# Altium schematic symbol library ESP32-S3-DEVKITC-1-N8R2.SchLib: 1 symbol
Pins are listed as number, name and electrical type; pins without a type are passive.

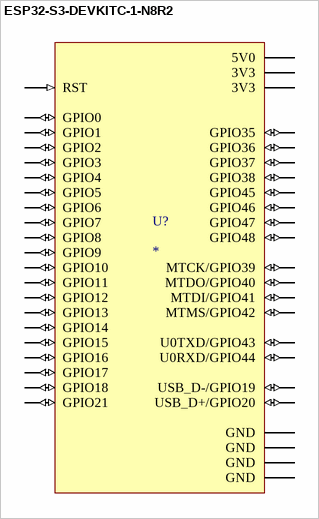
[diagram p0: symbol ESP32-S3-DEVKITC-1-N8R2]

## ESP32-S3-DEVKITC-1-N8R2
designator U?
WiFi Development Tools - 802.11 (Engineering Samples Only) ESP32-S3 General-Purpose Development Board, ESP32-S3-WROOM-1-N8R2, with Pin Header; MF: Espressif Systems; MP: ESP32-S3-DEVKITC-1-N8R2; SnapEDA_Link: https://www.snapeda.com/parts/ESP32-S3-DEVKITC-1-N8R2/Espressif+Systems/view-part/?ref=snap; Package: None; Value: *; Check_prices: https://www.snapeda.com/parts/ESP32-S3-DEVKITC-1-N8R2/Espressif+Systems/view-part/?ref=eda
footprint ESP32-S3-DEVKITC-1-N8R2
pins: J1_1 3V3 (power), J1_2 3V3 (power), J1_3 RST (in), J1_4 GPIO4 (io), J1_5 GPIO5 (io), J1_6 GPIO6 (io), J1_7 GPIO7 (io), J1_8 GPIO15 (io), J1_9 GPIO16 (io), J1_10 GPIO17 (io), J1_11 GPIO18 (io), J1_12 GPIO8 (io), J1_13 GPIO3 (io), J1_14 GPIO46 (io), J1_15 GPIO9 (io), J1_16 GPIO10 (io), J1_17 GPIO11 (io), J1_18 GPIO12 (io), J1_19 GPIO13 (io), J1_20 GPIO14 (io), J1_21 5V0 (power), J1_22 GND (power), J3_1 GND (power), J3_2 U0TXD/GPIO43 (io), J3_3 U0RXD/GPIO44 (io), J3_4 GPIO1 (io), J3_5 GPIO2 (io), J3_6 MTMS/GPIO42 (io), J3_7 MTDI/GPIO41 (io), J3_8 MTDO/GPIO40 (io), J3_9 MTCK/GPIO39 (io), J3_10 GPIO38 (io), J3_11 GPIO37 (io), J3_12 GPIO36 (io), J3_13 GPIO35 (io), J3_14 GPIO0 (io), J3_15 GPIO45 (io), J3_16 GPIO48 (io), J3_17 GPIO47 (io), J3_18 GPIO21 (io), J3_19 USB_D+/GPIO20 (io), J3_20 USB_D-/GPIO19 (io), J3_21 GND (power), J3_22 GND (power)